# Altium footprint library PTS636.PcbLib: 1 footprints
Each footprint in its own frame and in the unit in brackets; x right, y up, seen from the top. Pads: shape width x height; smd on the part's side, far side on the other; paste and mask are expansions set on the pad; w line width, h text height; cw(c..) or ccw(c..) is an arc to the next point about the centre after c.
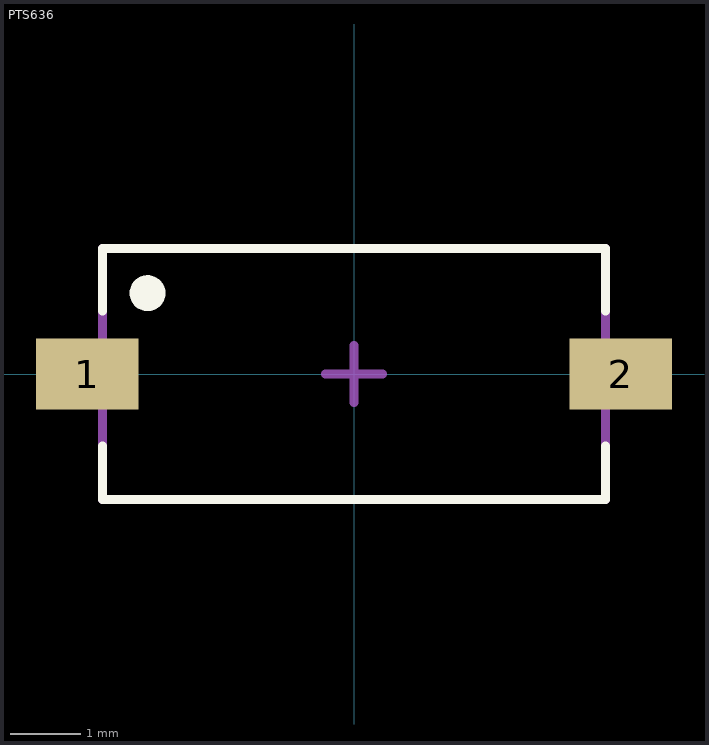
[diagram p0: the footprint, top view; thin cyan lines are the x and y axes]

## PTS636 [mm]
pads (2):
  rect 1.45x1 smd mask+0.06: 1(-3.775,0) 2(3.775,0)
Top Overlay:
  circle w0.254: c-2.921,1.143 r0.127
  lines w0.127: -3.556,-1.016 -3.556,-1.778 3.556,-1.778 3.556,-1.016 ; -3.556,0.889 -3.556,1.778 3.556,1.778 3.556,0.889
Top Designator:
  text ".Designator" at -7.618,-0.508 h1.52
3D Body:
  lines w0.127: -3.556,-1.778 3.556,-1.778 3.556,1.778 -3.556,1.778 -3.556,0.508 -3.556,-1.778
Center Cross:
  lines w0.127: -0.4,0 0,0 ; 0,-0.4 0,0 ; 0,0.4 0,0 ; 0.4,0 0,0
3D body "PTS636 SM43J SMTR LFS.STEP": height 4.3, standoff 0, extent -3.55,-1.75 3.55,1.75